# Altium footprint library PCBLib.PcbLib: 35 footprints (part 3 of 3)
Each footprint in its own frame and in the unit in brackets; x right, y up, seen from the top. Pads: shape width x height; smd on the part's side, far side on the other; paste and mask are expansions set on the pad; w line width, h text height; cw(c..) or ccw(c..) is an arc to the next point about the centre after c.
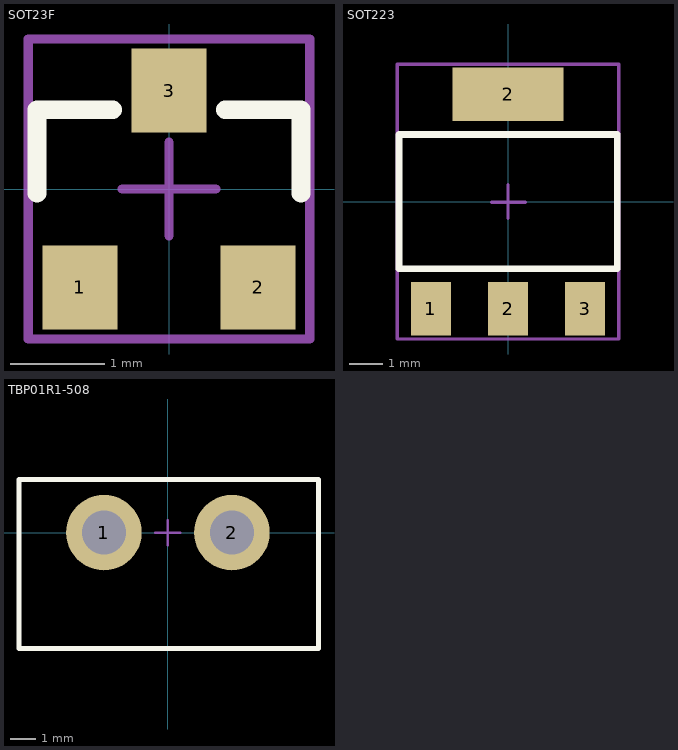
[diagram p2: the footprints below, top view; thin cyan lines are the x and y axes]

## SOT23F [mm] "SSM3K376R,LF"
pads (3):
  rect 0.8x0.9 smd mask+0.05: 1(-0.95,-1.05) 2(0.95,-1.05) 3(0,1.05)
Top Overlay:
  lines w0.2: -1.409,-0.045 -1.409,0.845 -0.6,0.845 ; 0.6,0.845 1.409,0.845 1.409,-0.045
Top Component Center:
  lines w0.1: -0.5,0 0.5,0 ; 0,-0.5 0,0.5 ; -1.5,-1.6 -1.5,1.6 1.5,1.6 1.5,-1.6 -1.5,-1.6
Top Designator:
  lines w0.1: -1.5,-1.6 1.5,-1.6 1.5,1.6 -1.5,1.6 -1.5,-1.6
  text ".Designator" at -0.95,-0.317 h0.7
3D body "ZXMS6004FFTA.STEP": height 0.9, standoff 0, extent -1.45,-1.2 1.45,1.2

## SOT223 [mm] "AP7361-33E-13"
pads (4):
  rect 1.2x1.6 smd mask+0.05: 1(-2.3,-3.2) 2(0,-3.2) 3(2.3,-3.2)
  rect 3.3x1.6 smd mask+0.05: 2(0,3.2)
Top Overlay:
  lines w0.2: 3.241,-2 -3.255,-2 -3.255,2 -1.1,2 3.241,2 ; 3.255,-2 3.255,2
Top Component Center:
  lines w0.1: -0.49,-0.024 0.51,-0.024 ; 0,-0.5 0,0.5 ; -3.3,-4.1 -3.3,4.1 3.3,4.1 3.3,-4.1 -3.3,-4.1
Top Designator:
  lines w0.1: -3.3,-4.1 -3.3,4.1 3.3,4.1 3.3,-4.1 -3.3,-4.1
  text ".Designator" at -1.9,-0.167 h1
3D body "CircuitWorks-SOT-223.step": height 1.65, standoff -0.03, extent -3.25,-3.48 3.25,3.48

## TBP01R1-508 [mm]
pads (2):
  round 3 hole 1.75 mask+0.05: 1(-2.54,0) 2(2.54,0)
Top Overlay:
  lines w0.2: -5.913,-4.6 -5.913,2.11 5.982,2.11 5.982,-4.6 -5.913,-4.6
Top Component Center:
  lines w0.1: -0.511,-0.006 0.489,-0.006 ; 0,-0.5 0,0.5 ; -5.9,-4.6 6,-4.6 6,2.1 -5.9,2.1 -5.9,-4.6
Top Designator:
  lines w0.1: -5.9,-4.6 -5.9,2.1 6,2.1 6,-4.6 -5.9,-4.6
  text ".Designator" at -3.4,-1.434 h2
3D body "TBP01R1-508-02BE.step": height 8.5, standoff -4, extent -5.88,-9.957 5.88,2.043